# Altium schematic symbol library IR_Sensor.SCHLIB: 2 symbols
Pins are listed as number, name and electrical type; pins without a type are passive.

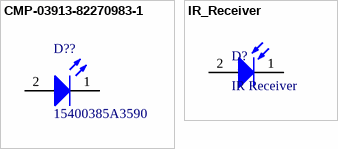
[diagram p0: symbols CMP-03913-82270983-1 to IR_Receiver]

## CMP-03913-82270983-1
designator D??, comment 15400385A3590
15400385A3590 WL-TIRW THT Infrared Round Waterclear; NexarPartId: 82270983; Forward Voltage: 1.5V; Viewing Angle: 35°; Wavelength: 850nm; Max Reverse Voltage (DC): 5V; Forward Current: 1A; Packaging: Bulk; RoHS: Non-Compliant; Peak Wavelength: 850nm
footprint WL-TIRW_D3.9H5.3 (WL-TIRW THT Infrared Round Waterclear)
pins: 1 K, 2 A

## IR_Receiver
designator D?, comment IR Receiver
footprint IR_Receiver
footprint IR_Receiver
pins: 1 K, 2 A